# EAGLE library part HEMISPHERE_GPS_MOUNT (library GPS_Hemisphere)
Outline for the "Hemisphere GPS" Crescent OEM Board
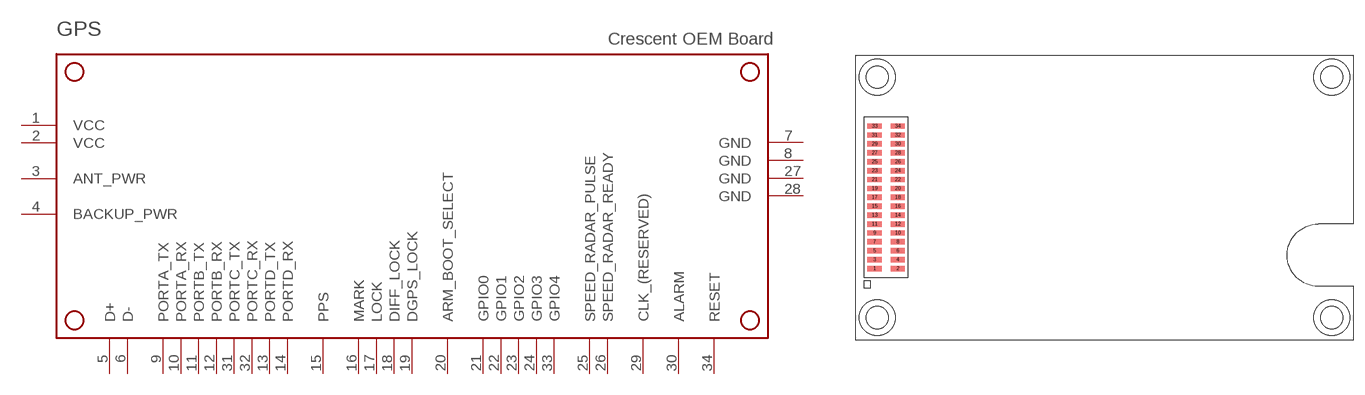
[diagram p0: symbol with the pads of GPS_CRECENT_OUTLINE; footprint GPS_CRECENT_OUTLINE]

Designator prefix GPS

## HEMISPHERE_GPS_MOUNT  [GPS_CRECENT_OUTLINE]
1  VCC
2  VCC
3  ANT_PWR
4  BACKUP_PWR
5  D+
6  D-
7  GND
8  GND
9  PORTA_TX
10  PORTA_RX
11  PORTB_TX
12  PORTB_RX
13  PORTD_TX
14  PORTD_RX
15  PPS
16  MARK
17  LOCK
18  DIFF_LOCK
19  DGPS_LOCK
20  ARM_BOOT_SELECT
21  GPIO0
22  GPIO1
23  GPIO2
24  GPIO3
25  SPEED_RADAR_PULSE
26  SPEED_RADAR_READY
27  GND
28  GND
29  CLK_(RESERVED)
30  ALARM
31  PORTC_TX
32  PORTC_RX
33  GPIO4
34  RESET

## Footprint GPS_CRECENT_OUTLINE (pad centres in mm)
smd 2.032 x 0.762: 1 -32.766,-10.16; 2 -29.464,-10.16; 3 -32.766,-8.89; 4 -29.464,-8.89; 5 -32.766,-7.62; 6 -29.464,-7.62; 7 -32.766,-6.35; 8 -29.464,-6.35; 9 -32.766,-5.08; 10 -29.464,-5.08; 11 -32.766,-3.81; 12 -29.464,-3.81; 13 -32.766,-2.54; 14 -29.464,-2.54; 15 -32.766,-1.27; 16 -29.464,-1.27; 17 -32.766,0; 18 -29.464,0; 19 -32.766,1.27; 20 -29.464,1.27; 21 -32.766,2.54; 22 -29.464,2.54; 23 -32.766,3.81; 24 -29.464,3.81; 25 -32.766,5.08; 26 -29.464,5.08; 27 -32.766,6.35; 28 -29.464,6.35; 29 -32.766,7.62; 30 -29.464,7.62; 31 -32.766,8.89; 32 -29.464,8.89; 33 -32.766,10.16; 34 -29.464,10.16
hole 3.175 at -32.385,17.145
hole 3.175 at -32.385,-17.145
hole 3.175 at 32.385,-17.145
hole 3.175 at 32.385,17.145